# Altium integrated library Analog Devices Clock Generation and Distribution.IntLib: 120 symbols (part 13 of 18)
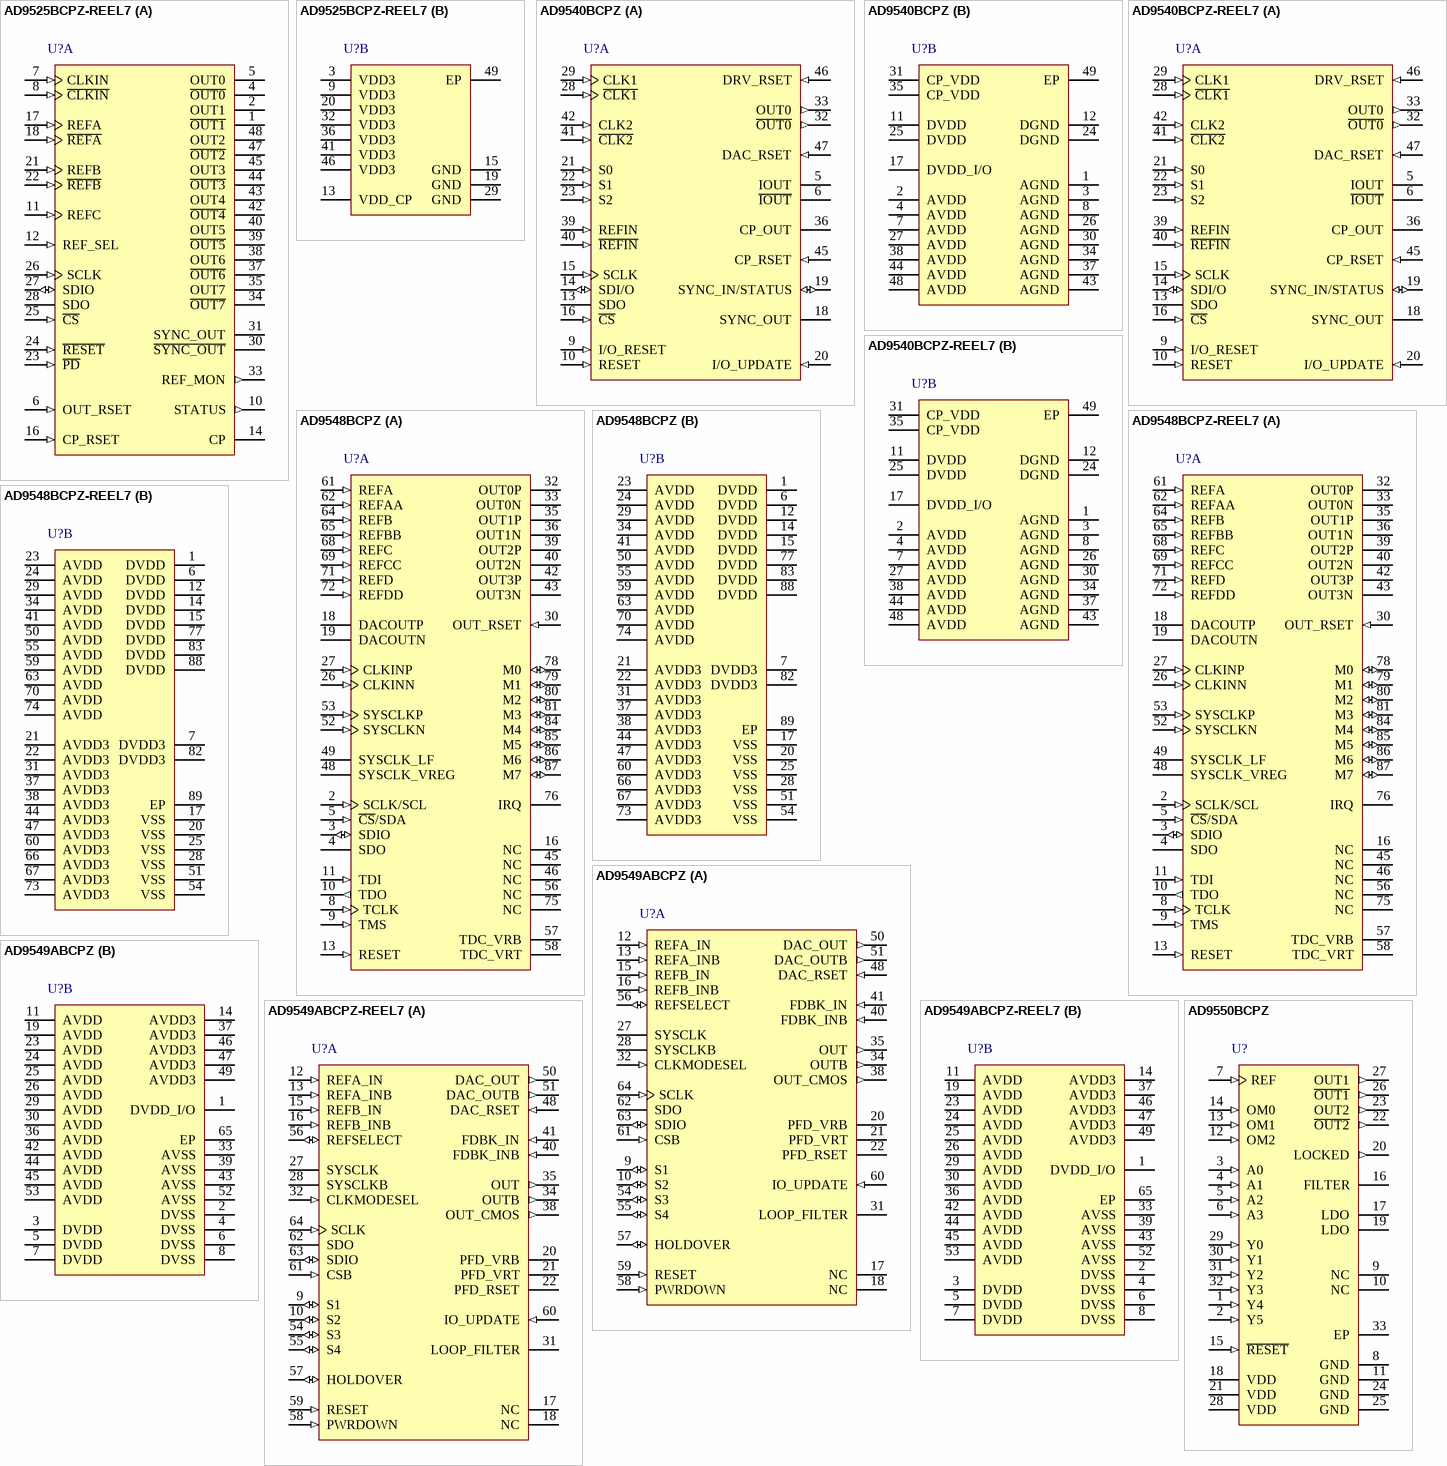
[diagram p24: symbols AD9525BCPZ-REEL7 to AD9550BCPZ]

## AD9548BCPZ-REEL7
designator U?
Quad / Octal Inputs Network Clock Generator / Synchronizer, 3.3 V Supply, Commercial, 88-pin QFN (CP-88-2), Reel; Manufacturer: Analog Devices; PartNumber: AD9548BCPZ-REEL7; # of Inputs: 8; # of Outputs: 4; Supply Voltage (V): 3.3; I/O Interface: Serial; Max f-out: 450 MHz; On-Chip VCO or DCO: Yes; Output Logic: LVDS, LVPECL, CMOS; DatasheetVersion: Rev. B; PackageVersion: 092707-A, 09/2007; PackageReference: CP-88-2; PackageDescription: 88-Pin Lead Frame Chip Scale Package, Body 12 x 12 mm, Pitch 0.5 mm; Supplier 1: Digi-Key; Supplier Part Number 1: AD9548BCPZ-REEL7-ND; Supplier 2: Newark; Supplier Part Number 2: 05R6605; Supplier 3: Mouser; Supplier Part Number 3: 584-AD9548BCPZ-R7; Packing: Reel; Mounting Technology: Surface Mount; Code_JEDEC: MO-220-VRRD; ComponentLink1Description: Manufacturer URL; ComponentLink1URL: http://www.analog.com/en/index.html; ComponentLink2Description: Datasheet; ComponentLink2URL: http://www.analog.com/static/imported-files/data_sheets/AD9548.pdf; ComponentLink3Description: Package Specification; ComponentLink3URL: http:/www.analog.com/static/imported-files/packages/PKG_PDF/LFCSP(CP)/CP_88_2.pdf; ComponentLink4Description: Product URL; ComponentLink4URL: http://www.analog.com/en/clock-and-timing/clock-generation-and-distribution/ad9548/products/product.html
footprint ADI-CP-88-2_N (QFN, 88-Leads, Body 12x12mm, Pitch 0.5mm, Thermal Pad 6x6mm, IPC Medium Density)
footprint ADI-CP-88-2_L (QFN, 88-Leads, Body 12x12mm, Pitch 0.5mm, Thermal Pad 6x6mm, IPC High Density)
footprint ADI-CP-88-2_M (QFN, 88-Leads, Body 12x12mm, Pitch 0.5mm, Thermal Pad 6x6mm, IPC Low Density)
part A pins: 2 SCLK/SCL (in) "Serial Programming Clock. Data clock for serial programming.", 3 SDIO (io) "Serial Data Input/Output. When the device is in 4-wire mode, data is written via this pin. In 3-wire mode, both data reads and writes occur on this pin. There is no internal pull-up/pull-down resistor on this pin.", 4 SDO (hiz) "Serial Data Output. Use this pin to read data in 4-wire mode (high impedance in 3-wire mode). There is no internal pull-up/pull-down resistor on this pin.", 5 ~{CS}/SDA (in) "Chip Select (SPI). Active low. When programming a device, this pin must be held low. In systems where more than one AD9548 is present, this pin enables individual programming of each AD9548 (in I2C(R) mode, this is a serial (See Datasheet)", 8 TCLK (in) "JTAG Clock. Internal pull-down resistor; no connection if JTAG is not used.", 9 TMS (in) "JTAG Mode. Internal pull-up resistor; no connection if JTAG is not used.", 10 TDO (out) "JTAG Output. No connection if JTAG is not used", 11 TDI (in) "JTAG Input. Internal pull-up resistor; no connection if JTAG is not used.", 13 RESET (in) "Chip Reset. When this active high pin is asserted, the chip goes into reset. This pin has an internal 50 k ohm pull-down resistor.", 16 NC "No Connect.", 18 DACOUTP (hiz) "DAC Output. DACOUTP contains an internal 50 ohm pull-down resistor.", 19 DACOUTN (hiz) "Complementary DAC Output. DACOUTN contains an internal 50 ohm pull-down resistor.", 26 CLKINN (in) "Clock Distribution Input. In standard operating mode, this pin is connected to the filtered DACOUTN output. This internally biased input is typically ac-coupled and, when configured as such, can accept any differential (See Datasheet)", 27 CLKINP (in) "Clock Distribution Input. In standard operating mode, this pin is connected to the filtered DACOUTP output", 30 OUT_RSET (in) "Connect an optional 3.12 k ohm resistor from this pin to ground (see the Output Current Control with an External Resistor section).", 32 OUT0P (hiz) "Output 0. This output can be configured as LVPECL, LVDS, or single-ended CMOS. LVPECL and LVDS operation require a 3.3 V output driver power supply. CMOS operation can be either 1.8 V or 3.3 V, depending on the output driver (See Datasheet)", 33 OUT0N (hiz) "Complementary Output 0. This output can be configured as LVPECL, LVDS, or single-ended CMOS.", 35 OUT1P (hiz) "Output 1. This output can be configured as LVPECL, LVDS, or single-ended CMOS. LVPECL and LVDS operation require a 3.3 V output driver power supply. CMOS operation can be either 1.8 V or 3.3 V, depending on the output driver (See Datasheet)", 36 OUT1N (hiz) "Complementary Output 1. This output can be configured as LVPECL, LVDS, or single-ended CMOS.", 39 OUT2P (hiz) "Output 2. This output can be configured as LVPECL, LVDS, or single-ended CMOS. LVPECL and LVDS operation require a 3.3 V output driver power supply. CMOS operation can be either 1.8 V or 3.3 V, depending on the output driver (See Datasheet)", 40 OUT2N (hiz) "Complementary Output 2. This output can be configured as LVPECL, LVDS, or single-ended CMOS.", 42 OUT3P (hiz) "Output 3. This output can be configured as LVPECL, LVDS, or single-ended CMOS. LVPECL and LVDS operation require a 3.3 V output driver power supply. CMOS operation can be either 1.8 V or 3.3 V, depending on the output driver (See Datasheet)", 43 OUT3N (hiz) "Complementary Output 3. This output can be configured as LVPECL, LVDS, or single-ended CMOS.", 45 NC "No Connect.", 46 NC "No Connect.", 48 SYSCLK_VREG "System Clock Loop Filter Voltage Regulator. Connect a 0.1 uF capacitor from this pin to ground. This pin is also the ac ground reference for the integrated SYSCLK PLL multiplier’s external loop filter (see the SYSCLK PLL (See Datasheet)", 49 SYSCLK_LF "System Clock Multiplier Loop Filter. When using the frequency multiplier to drive the system clock, an external loop filter can be attached to this pin.", 52 SYSCLKN (in) "Complementary System Clock Input. Complementary signal to SYSCLKP. SYSCLKN contains internal dc biasing and should be ac-coupled with a 0.01 uF capacitor, except when using a crystal, in which case connect the crystal across (See Datasheet)", 53 SYSCLKP (in) "System Clock Input. SYSCLKP contains internal dc biasing and should be ac-coupled with a 0.01 uF capacitor, except when using a crystal, in which case connect the crystal across SYSCLKP and SYSCLKN. Single-ended 1.8 V CMOS (See Datasheet)", 56 NC "No Connection. These pins should be left floating.", 57 TDC_VRB "Use capacitive decoupling on these pins.", 58 TDC_VRT "Use capacitive decoupling on these pins.", 61 REFA (in) "Reference A Input. This internally biased input is typically ac-coupled and, when configured as such, can accept any differential signal with single-ended swing up to 3.3 V. If dc-coupled, input can be LVPECL, CMOS, or LVDS.", 62 REFAA (in) "Complementary Reference A Input. Complementary signal to the input provided on Pin 61. The user can configure this pin as a separate single-ended input.", 64 REFB (in) "Reference B Input. This internally biased input is typically ac-coupled and, when configured as such, can accept any differential signal with single-ended swing up to 3.3 V. If dc-coupled, input can be LVPECL, CMOS, or LVDS.", 65 REFBB (in) "Complementary Reference B Input. Complementary signal to the input provided on Pin 64. The user can configure this pin as a separate single-ended input.", 68 REFC (in) "Reference C Input. This internally biased input is typically ac-coupled and, when configured as such, can accept any differential signal with single-ended swing up to 3.3 V. If dc-coupled, input can be LVPECL, CMOS, or LVDS.", 69 REFCC (in) "Complementary Reference C Input. Complementary signal to the input provided on Pin 68. The user can configure this pin as a separate single-ended input.", 71 REFD (in) "Reference D Input. This internally biased input is typically ac-coupled and, when configured as such, can accept any differential signal with single-ended swing up to 3.3 V. If dc-coupled, input can be LVPECL, CMOS, or LVDS.", 72 REFDD (in) "Complementary Reference D Input. Complementary signal to the input provided on Pin 71. The user can configure this pin as a separate single-ended input.", 75 NC "No Connection. These pins should be left floating.", 76 IRQ (hiz) "Interrupt Request Line.", 78 M0 (io) "Configurable I/O Pins. These pins are configured under program control.", 79 M1 (io) "Configurable I/O Pins. These pins are configured under program control.", 80 M2 (io) "Configurable I/O Pins. These pins are configured under program control.", 81 M3 (io) "Configurable I/O Pins. These pins are configured under program control.", 84 M4 (io) "Configurable I/O Pins. These pins are configured under program control.", 85 M5 (io) "Configurable I/O Pins. These pins are configured under program control.", 86 M6 (io) "Configurable I/O Pins. These pins are configured under program control.", 87 M7 (io) "Configurable I/O Pins. These pins are configured under program control."
part B pins: 1 DVDD (power) "1.8 V Digital Supply.", 6 DVDD (power) "1.8 V Digital Supply.", 7 DVDD3 (power) "3.3 V I/O Digital Supply.", 12 DVDD (power) "1.8 V Digital Supply.", 14 DVDD (power) "1.8 V DAC Decode Digital Supply. Keep isolated from the 1.8 V core digital supply.", 15 DVDD (power) "1.8 V DAC Decode Digital Supply. Keep isolated from the 1.8 V core digital supply.", 17 VSS (power) "Analog Ground. Connect to ground.", 20 VSS (power) "Analog Ground. Connect to ground.", 21 AVDD3 (power) "3.3 V Analog (DAC) Power Supply.", 22 AVDD3 (power) "3.3 V Analog (DAC) Power Supply.", 23 AVDD (power) "1.8 V Analog (DAC) Power Supply.", 24 AVDD (power) "1.8 V Analog (DAC) Power Supply.", 25 VSS (power) "Analog Ground. Connect to ground.", 28 VSS (power) "Analog Ground. Connect to ground.", 29 AVDD (power) "1.8 V Analog (Input Receiver) Power Supply.", 31 AVDD3 (power) "Analog Supply for Output Driver. These pins are normally 3.3 V but can be 1.8 V. Pin 31 powers Out0x. Pin 37 powers OUT1x. Pin 38 powers OUT2x. Pin 44 powers OUT3x. Apply power to these pins even if the corresponding outputs (See Datasheet)", 34 AVDD (power) "1.8 V Analog (Output Divider) Power Supply.", 37 AVDD3 (power) "Analog Supply for Output Driver. These pins are normally 3.3 V but can be 1.8 V. Pin 31 powers Out0x. Pin 37 powers OUT1x. Pin 38 powers OUT2x. Pin 44 powers OUT3x. Apply power to these pins even if the corresponding outputs (See Datasheet)", 38 AVDD3 (power) "Analog Supply for Output Driver. These pins are normally 3.3 V but can be 1.8 V. Pin 31 powers Out0x. Pin 37 powers OUT1x. Pin 38 powers OUT2x. Pin 44 powers OUT3x. Apply power to these pins even if the corresponding outputs (See Datasheet)", 41 AVDD (power) "1.8 V Analog (Output Divider) Power Supply.", 44 AVDD3 (power) "Analog Supply for Output Driver. These pins are normally 3.3 V but can be 1.8 V. Pin 31 powers Out0x. Pin 37 powers OUT1x. Pin 38 powers OUT2x. Pin 44 powers OUT3x. Apply power to these pins even if the corresponding outputs (See Datasheet)", 47 AVDD3 (power) "3.3 V Analog (System Clock) Power Supply.", 50 AVDD (power) "1.8 V Analog (System Clock) Power Supply.", 51 VSS (power) "Analog Ground. Connect to ground.", 54 VSS (power) "Analog Ground. Connect to ground.", 55 AVDD (power) "1.8 V Analog (System Clock) Power Supply.", 59 AVDD (power) "1.8 V Analog Power Supply.", 60 AVDD3 (power) "3.3 V Analog (Reference Input) Power Supply.", 63 AVDD (power) "1.8 V Analog (Reference Input) Power Supply.", 66 AVDD3 (power) "3.3 V Analog (Reference Input) Power Supply.", 67 AVDD3 (power) "3.3 V Analog (Reference Input) Power Supply.", 70 AVDD (power) "1.8 V Analog (Reference Input) Power Supply.", 73 AVDD3 (power) "3.3 V Analog (Reference Input) Power Supply.", 74 AVDD (power) "1.8 V Analog (Reference Input) Power Supply.", 77 DVDD (power) "1.8 V Digital Supply.", 82 DVDD3 (power) "3.3 V I/O Digital Supply.", 83 DVDD (power) "1.8 V Digital Supply.", 88 DVDD (power) "1.8 V Digital Supply.", 89 EP (power) "The exposed pad must be connected to ground (VSS)."

## AD9549ABCPZ
designator U?
Dual Input Network Clock Generator / Synchronizer, Commercial, 64-pin QFN (CP-64-7), Tray; Manufacturer: Analog Devices; PartNumber: AD9549ABCPZ; # of Inputs: 2; Supply Voltage (V): 3.3; I/O Interface: Serial; Max f-out: 750 MHz; On-Chip VCO or DCO: Yes; Output Logic: CMOS; DatasheetVersion: Rev. D; PackageVersion: 062209-A, 06/2009; PackageReference: CP-64-7; PackageDescription: 64-Pin Lead Frame Chip Scale Package, Body 9 x 9 mm, Pitch 0.5 mm; Supplier 1: Digi-Key; Supplier Part Number 1: AD9549ABCPZ-ND; Supplier 2: Mouser; Supplier Part Number 2: 584-AD9549ABCPZ; # of Outputs: 2; Packing: Tray; Mounting Technology: Surface Mount; Code_JEDEC: MO-220-VMMD-4; ComponentLink1Description: Manufacturer URL; ComponentLink1URL: http://www.analog.com/en/index.html; ComponentLink2Description: Datasheet; ComponentLink2URL: http://www.analog.com/static/imported-files/data_sheets/AD9549.pdf; ComponentLink3Description: Package Specification; ComponentLink3URL: http:/www.analog.com/static/imported-files/packages/PKG_PDF/LFCSP(CP)/CP_64_7.pdf; ComponentLink4Description: Product URL; ComponentLink4URL: http://www.analog.com/en/clock-and-timing/clock-generation-and-distribution/ad9549/products/product.html
footprint ADI-CP-64-7_N (QFN, 64-Leads, Body 9x9mm, Pitch 0.5mm, Thermal Pad 5.21x5.21mm, IPC Medium Density)
footprint ADI-CP-64-7_L (QFN, 64-Leads, Body 9x9mm, Pitch 0.5mm, Thermal Pad 5.21x5.21mm, IPC High Density)
footprint ADI-CP-64-7_M (QFN, 64-Leads, Body 9x9mm, Pitch 0.5mm, Thermal Pad 5.21x5.21mm, IPC Low Density)
part A pins: 9 S1 (io) "Configurable I/O Pins. [see datasheet]", 10 S2 (io) "Configurable I/O Pins. [see datasheet]", 12 REFA_IN (in) "Frequency/Phase Reference A Input. [see datasheet]", 13 REFA_INB (in) "Complementary Frequency/Phase Reference A Input. Complementary signal to the input provided on Pin 12. If using a single-ended, dc-coupled CMOS signal into REFA_IN, bypass this pin to ground with a 0.01 uF capacitor", 15 REFB_IN (in) "Frequency/Phase Reference B Input. This internally biased input is typically ac-coupled and, when configured as such, can accept any differential signal with single-ended swing between 0.4 V and 3.3 V. If dc-coupled, LVPECL or CMOS input is preferred.", 16 REFB_INB (in) "Complementary Frequency/Phase Reference B Input. Complementary signal to the input provided on Pin 15. If using a single-ended, dc-coupled CMOS signal into REFB_IN, bypass this pin to ground with a 0.01 uF capacitor.", 17 NC "No Connect. These are excess, unused pins that can be left floating", 18 NC "No Connect. These are excess, unused pins that can be left floating", 20 PFD_VRB "These pins must be capacitively decoupled. See the Phase Detector Pin Connections section for details.", 21 PFD_VRT "These pins must be capacitively decoupled. See the Phase Detector Pin Connections section for details.", 22 PFD_RSET "Connect a 5 K ohm resistor from this pin to ground (see the Phase Detector Pin Connections section).", 27 SYSCLK "System Clock Input. The system clock input has internal dc biasing and should always be ac-coupled, except when using a crystal. [see datasheet]", 28 SYSCLKB "Complementary System Clock. Complementary signal to the input provided on Pin 27. Use a 0.01 uF capacitor to ground on this pin if the signal provided on Pin 27 is single-ended.", 31 LOOP_FILTER "System Clock Multiplier Loop Filter. When using the frequency multiplier to drive the system clock, an external loop filter must be constructed and attached to this pin. [see datasheet]", 32 CLKMODESEL (in) "Clock Mode Select. Set to GND when connecting a crystal to the system clock input (Pin 27 and Pin 28). Pull up to 1.8 V when using either an oscillator or an external clock source. [see datasheet]", 34 OUTB (out) "Complementary HSTL Output. See the Specifications and Primary 1.8 V Differential HSTL Driver sections for details.", 35 OUT (out) "HSTL Output. See the Specifications and Primary 1.8 V Differential HSTL Driver sections for details.", 38 OUT_CMOS (out) "CMOS Output. See the Specifications and the Output Clock Drivers and 2× Frequency Multiplier sections. This pin is 1.8 V CMOS if Pin 37 is set to 1.8 V.", 40 FDBK_INB (in) "Complementary Feedback Input. In standard operating mode, this pin is connected to the filtered DAC_OUTB output. [see datasheet]", 41 FDBK_IN (in) "Feedback Input. In standard operating mode, this pin is connected to the filtered DAC_OUT output.", 48 DAC_RSET (in) "DAC Output Current Setting Resistor. Connect a resistor (usually 10 K ohm) from this pin to GND. See the DAC Output section.", 50 DAC_OUT (out) "DAC Output. This signal should be filtered and sent back on chip through FDBK_IN input. This pin has an internal 50  ohm pull-down resistor.", 51 DAC_OUTB (out) "Complementary DAC Output. This signal should be filtered and sent back on chip through FDBK_INB input. This pin has an internal 50  ohm pull-down resistor.", 54 S3 (io) "Configurable I/O Pins. These pins are configured under program control (see the Status and Warnings section) and do not have internal pull-up/pull-down resistors.", 55 S4 (io) "Configurable I/O Pins. These pins are configured under program control (see the Status and Warnings section) and do not have internal pull-up/pull-down resistors.", 56 REFSELECT (io) "Reference Select Input. In manual mode, the REFSELECT pin operates as a high impedance input pin; and in automatic mode, [see datasheet].", 57 HOLDOVER (io) "Holdover (Active High). In manual holdover mode, this pin is used to force the AD9549 into holdover mode. In automatic holdover mode, it indicates holdover status. There is no internal pull-up/pull-down resistor on this pin.", 58 PWRDOWN (in) "Power-Down. When this active high pin is asserted, the device becomes inactive and enters the full power-down state. This pin has an internal 50 K ohm pull-down resistor.", 59 RESET (in) "Chip Reset. When this active high pin is asserted, the chip goes into reset. Note that on power-up, it is recommended that the user assert a high to low edge after the power supplies reach a threshold and stabilize. [see datasheet].", 60 IO_UPDATE (in) "I/O Update. A logic transition from 0 to 1 on this pin transfers data from the I/O port registers to the control registers (see the Write section). This pin has an internal 50 K ohm pull-down resistor.", 61 CSB (in) "Chip Select. Active low. When programming a device, this pin must be held low. In systems where more than one AD9549 is present, this pin enables individual programming of each AD9549. This pin has an internal 100 K ohm pull-up resistor.", 62 SDO (hiz) "Serial Data Output. When the device is in 3-wire mode, data is read on this pin. There is no internal pull-up/pull-down resistor on this pin.", 63 SDIO (io) "Serial Data Input/Output. When the device is in 3-wire mode, data is written via this pin. In 2-wire mode, data reads and writes both occur on this pin. There is no internal pull-up/pull-down resistor on this pin.", 64 SCLK (in) "Serial Programming Clock. Data clock for serial programming. This pin has an internal 50 K ohm pull-down resistor."
part B pins: 1 DVDD_I/O (power) "I/O Digital Supply.", 2 DVSS (power) "Digital Ground. Connect to ground", 3 DVDD (power) "Digital Supply.", 4 DVSS (power) "Digital Ground. Connect to ground", 5 DVDD (power) "Digital Supply.", 6 DVSS (power) "Digital Ground. Connect to ground", 7 DVDD (power) "Digital Supply.", 8 DVSS (power) "Digital Ground. Connect to ground", 11 AVDD (power) "Analog Supply. Connect to a nominal 1.8 V supply", 14 AVDD3 (power) "Analog Supply. Connect to a nominal 3.3 V supply", 19 AVDD (power) "Analog Supply. Connect to a nominal 1.8 V supply", 23 AVDD (power) "Analog Supply. Connect to a nominal 1.8 V supply", 24 AVDD (power) "Analog Supply. Connect to a nominal 1.8 V supply", 25 AVDD (power) "Analog Supply. Connect to a nominal 1.8 V supply", 26 AVDD (power) "Analog Supply. Connect to a nominal 1.8 V supply", 29 AVDD (power) "Analog Supply. Connect to a nominal 1.8 V supply", 30 AVDD (power) "Analog Supply. Connect to a nominal 1.8 V supply", 33 AVSS (power) "Analog Ground. Connect to ground.", 36 AVDD (power) "Analog Supply. Connect to a nominal 1.8 V supply", 37 AVDD3 (power) "Analog Supply. Connect to a nominal 3.3 V supply", 39 AVSS (power) "Analog Ground. Connect to ground.", 42 AVDD (power) "Analog Supply. Connect to a nominal 1.8 V supply", 43 AVSS (power) "Analog Ground. Connect to ground.", 44 AVDD (power) "Analog Supply. Connect to a nominal 1.8 V supply", 45 AVDD (power) "Analog Supply. Connect to a nominal 1.8 V supply", 46 AVDD3 (power) "Analog Supply. Connect to a nominal 3.3 V supply", 47 AVDD3 (power) "Analog Supply. Connect to a nominal 3.3 V supply", 49 AVDD3 (power) "Analog Supply. Connect to a nominal 3.3 V supply", 52 AVSS (power) "Analog Ground. Connect to ground.", 53 AVDD (power) "Analog Supply. Connect to a nominal 1.8 V supply", 65 EP (power) "Analog Ground. The exposed thermal pad on the bottom of the package pro-vides the analog ground for the part. This exposed pad must be connected to ground for proper operation."

## AD9549ABCPZ-REEL7
designator U?
Dual Input Network Clock Generator / Synchronizer, Commercial, 64-pin QFN (CP-64-7), Reel; Manufacturer: Analog Devices; PartNumber: AD9549ABCPZ-REEL7; # of Inputs: 2; Supply Voltage (V): 3.3; I/O Interface: Serial; Max f-out: 750 MHz; On-Chip VCO or DCO: Yes; Output Logic: CMOS; DatasheetVersion: Rev. D; PackageVersion: 062209-A, 06/2009; PackageReference: CP-64-7; PackageDescription: 64-Pin Lead Frame Chip Scale Package, Body 9 x 9 mm, Pitch 0.5 mm; Supplier 1: Digi-Key; Supplier Part Number 1: AD9549ABCPZ-REEL7-ND; Supplier 2: Mouser; Supplier Part Number 2: 584-AD9549ABCPZ-R7; # of Outputs: 2; Packing: Reel; Mounting Technology: Surface Mount; Code_JEDEC: MO-220-VMMD-4; ComponentLink1Description: Manufacturer URL; ComponentLink1URL: http://www.analog.com/en/index.html; ComponentLink2Description: Datasheet; ComponentLink2URL: http://www.analog.com/static/imported-files/data_sheets/AD9549.pdf; ComponentLink3Description: Package Specification; ComponentLink3URL: http:/www.analog.com/static/imported-files/packages/PKG_PDF/LFCSP(CP)/CP_64_7.pdf; ComponentLink4Description: Product URL; ComponentLink4URL: http://www.analog.com/en/clock-and-timing/clock-generation-and-distribution/ad9549/products/product.html
footprint ADI-CP-64-7_N (QFN, 64-Leads, Body 9x9mm, Pitch 0.5mm, Thermal Pad 5.21x5.21mm, IPC Medium Density)
footprint ADI-CP-64-7_L (QFN, 64-Leads, Body 9x9mm, Pitch 0.5mm, Thermal Pad 5.21x5.21mm, IPC High Density)
footprint ADI-CP-64-7_M (QFN, 64-Leads, Body 9x9mm, Pitch 0.5mm, Thermal Pad 5.21x5.21mm, IPC Low Density)
part A pins: 9 S1 (io) "Configurable I/O Pins. [see datasheet]", 10 S2 (io) "Configurable I/O Pins. [see datasheet]", 12 REFA_IN (in) "Frequency/Phase Reference A Input. [see datasheet]", 13 REFA_INB (in) "Complementary Frequency/Phase Reference A Input. Complementary signal to the input provided on Pin 12. If using a single-ended, dc-coupled CMOS signal into REFA_IN, bypass this pin to ground with a 0.01 uF capacitor", 15 REFB_IN (in) "Frequency/Phase Reference B Input. This internally biased input is typically ac-coupled and, when configured as such, can accept any differential signal with single-ended swing between 0.4 V and 3.3 V. If dc-coupled, LVPECL or CMOS input is preferred.", 16 REFB_INB (in) "Complementary Frequency/Phase Reference B Input. Complementary signal to the input provided on Pin 15. If using a single-ended, dc-coupled CMOS signal into REFB_IN, bypass this pin to ground with a 0.01 uF capacitor.", 17 NC "No Connect. These are excess, unused pins that can be left floating", 18 NC "No Connect. These are excess, unused pins that can be left floating", 20 PFD_VRB "These pins must be capacitively decoupled. See the Phase Detector Pin Connections section for details.", 21 PFD_VRT "These pins must be capacitively decoupled. See the Phase Detector Pin Connections section for details.", 22 PFD_RSET "Connect a 5 K ohm resistor from this pin to ground (see the Phase Detector Pin Connections section).", 27 SYSCLK "System Clock Input. The system clock input has internal dc biasing and should always be ac-coupled, except when using a crystal. [see datasheet]", 28 SYSCLKB "Complementary System Clock. Complementary signal to the input provided on Pin 27. Use a 0.01 uF capacitor to ground on this pin if the signal provided on Pin 27 is single-ended.", 31 LOOP_FILTER "System Clock Multiplier Loop Filter. When using the frequency multiplier to drive the system clock, an external loop filter must be constructed and attached to this pin. [see datasheet]", 32 CLKMODESEL (in) "Clock Mode Select. Set to GND when connecting a crystal to the system clock input (Pin 27 and Pin 28). Pull up to 1.8 V when using either an oscillator or an external clock source. [see datasheet]", 34 OUTB (out) "Complementary HSTL Output. See the Specifications and Primary 1.8 V Differential HSTL Driver sections for details.", 35 OUT (out) "HSTL Output. See the Specifications and Primary 1.8 V Differential HSTL Driver sections for details.", 38 OUT_CMOS (out) "CMOS Output. See the Specifications and the Output Clock Drivers and 2× Frequency Multiplier sections. This pin is 1.8 V CMOS if Pin 37 is set to 1.8 V.", 40 FDBK_INB (in) "Complementary Feedback Input. In standard operating mode, this pin is connected to the filtered DAC_OUTB output. [see datasheet]", 41 FDBK_IN (in) "Feedback Input. In standard operating mode, this pin is connected to the filtered DAC_OUT output.", 48 DAC_RSET (in) "DAC Output Current Setting Resistor. Connect a resistor (usually 10 K ohm) from this pin to GND. See the DAC Output section.", 50 DAC_OUT (out) "DAC Output. This signal should be filtered and sent back on chip through FDBK_IN input. This pin has an internal 50  ohm pull-down resistor.", 51 DAC_OUTB (out) "Complementary DAC Output. This signal should be filtered and sent back on chip through FDBK_INB input. This pin has an internal 50  ohm pull-down resistor.", 54 S3 (io) "Configurable I/O Pins. These pins are configured under program control (see the Status and Warnings section) and do not have internal pull-up/pull-down resistors.", 55 S4 (io) "Configurable I/O Pins. These pins are configured under program control (see the Status and Warnings section) and do not have internal pull-up/pull-down resistors.", 56 REFSELECT (io) "Reference Select Input. In manual mode, the REFSELECT pin operates as a high impedance input pin; and in automatic mode, [see datasheet].", 57 HOLDOVER (io) "Holdover (Active High). In manual holdover mode, this pin is used to force the AD9549 into holdover mode. In automatic holdover mode, it indicates holdover status. There is no internal pull-up/pull-down resistor on this pin.", 58 PWRDOWN (in) "Power-Down. When this active high pin is asserted, the device becomes inactive and enters the full power-down state. This pin has an internal 50 K ohm pull-down resistor.", 59 RESET (in) "Chip Reset. When this active high pin is asserted, the chip goes into reset. Note that on power-up, it is recommended that the user assert a high to low edge after the power supplies reach a threshold and stabilize. [see datasheet].", 60 IO_UPDATE (in) "I/O Update. A logic transition from 0 to 1 on this pin transfers data from the I/O port registers to the control registers (see the Write section). This pin has an internal 50 K ohm pull-down resistor.", 61 CSB (in) "Chip Select. Active low. When programming a device, this pin must be held low. In systems where more than one AD9549 is present, this pin enables individual programming of each AD9549. This pin has an internal 100 K ohm pull-up resistor.", 62 SDO (hiz) "Serial Data Output. When the device is in 3-wire mode, data is read on this pin. There is no internal pull-up/pull-down resistor on this pin.", 63 SDIO (io) "Serial Data Input/Output. When the device is in 3-wire mode, data is written via this pin. In 2-wire mode, data reads and writes both occur on this pin. There is no internal pull-up/pull-down resistor on this pin.", 64 SCLK (in) "Serial Programming Clock. Data clock for serial programming. This pin has an internal 50 K ohm pull-down resistor."
part B pins: 1 DVDD_I/O (power) "I/O Digital Supply.", 2 DVSS (power) "Digital Ground. Connect to ground", 3 DVDD (power) "Digital Supply.", 4 DVSS (power) "Digital Ground. Connect to ground", 5 DVDD (power) "Digital Supply.", 6 DVSS (power) "Digital Ground. Connect to ground", 7 DVDD (power) "Digital Supply.", 8 DVSS (power) "Digital Ground. Connect to ground", 11 AVDD (power) "Analog Supply. Connect to a nominal 1.8 V supply", 14 AVDD3 (power) "Analog Supply. Connect to a nominal 3.3 V supply", 19 AVDD (power) "Analog Supply. Connect to a nominal 1.8 V supply", 23 AVDD (power) "Analog Supply. Connect to a nominal 1.8 V supply", 24 AVDD (power) "Analog Supply. Connect to a nominal 1.8 V supply", 25 AVDD (power) "Analog Supply. Connect to a nominal 1.8 V supply", 26 AVDD (power) "Analog Supply. Connect to a nominal 1.8 V supply", 29 AVDD (power) "Analog Supply. Connect to a nominal 1.8 V supply", 30 AVDD (power) "Analog Supply. Connect to a nominal 1.8 V supply", 33 AVSS (power) "Analog Ground. Connect to ground.", 36 AVDD (power) "Analog Supply. Connect to a nominal 1.8 V supply", 37 AVDD3 (power) "Analog Supply. Connect to a nominal 3.3 V supply", 39 AVSS (power) "Analog Ground. Connect to ground.", 42 AVDD (power) "Analog Supply. Connect to a nominal 1.8 V supply", 43 AVSS (power) "Analog Ground. Connect to ground.", 44 AVDD (power) "Analog Supply. Connect to a nominal 1.8 V supply", 45 AVDD (power) "Analog Supply. Connect to a nominal 1.8 V supply", 46 AVDD3 (power) "Analog Supply. Connect to a nominal 3.3 V supply", 47 AVDD3 (power) "Analog Supply. Connect to a nominal 3.3 V supply", 49 AVDD3 (power) "Analog Supply. Connect to a nominal 3.3 V supply", 52 AVSS (power) "Analog Ground. Connect to ground.", 53 AVDD (power) "Analog Supply. Connect to a nominal 1.8 V supply", 65 EP (power) "Analog Ground. The exposed thermal pad on the bottom of the package pro-vides the analog ground for the part. This exposed pad must be connected to ground for proper operation."

## AD9550BCPZ
designator U?
Integer-N Clock Translator for Wireline Communications, 3.3 V Supply, Industrial, 32-pin QFN (CP-32-7), Tray; Manufacturer: Analog Devices; PartNumber: AD9550BCPZ; # of Inputs: 1; # of Outputs: 2; Supply Voltage (V): 3.3; I/O Interface: Pin Select; Max f-out: 810 MHz; On-Chip VCO or DCO: Yes; Output Logic: LVDS, LVPECL, CMOS; DatasheetVersion: Rev. 0; PackageVersion: 112408-A, 11/2008; PackageReference: CP-32-7; PackageDescription: 32-Pin Lead Frame Chip Scale Package, Body 5 x 5 mm, Pitch 0.5 mm; Supplier 1: Digi-Key; Supplier Part Number 1: AD9550BCPZ-ND; Supplier 2: Mouser; Supplier Part Number 2: 584-AD9550BCPZ; Packing: Tray; Mounting Technology: Surface Mount; Code_JEDEC: MO-220-WHHD; ComponentLink1Description: Manufacturer URL; ComponentLink1URL: http://www.analog.com/en/index.html; ComponentLink2Description: Datasheet; ComponentLink2URL: http://www.analog.com/static/imported-files/data_sheets/AD9550.pdf; ComponentLink3Description: Package Specification; ComponentLink3URL: http://www.analog.com/static/imported-files/packages/CP_32_7.pdf; ComponentLink4Description: Product URL; ComponentLink4URL: http://www.analog.com/en/clock-and-timing/clock-generation-and-distribution/ad9550/products/product.html
footprint ADI-CP-32-7_N (QFN, 32-Leads, Body 5x5mm, Pitch 0.5mm, Thermal Pad 3.1x3.1mm, IPC Medium Density)
footprint ADI-CP-32-7_L (QFN, 32-Leads, Body 5x5mm, Pitch 0.5mm, Thermal Pad 3.1x3.1mm, IPC High Density)
footprint ADI-CP-32-7_M (QFN, 32-Leads, Body 5x5mm, Pitch 0.5mm, Thermal Pad 3.1x3.1mm, IPC Low Density)
pins: 1 Y4 (in) "Control Pins. These pins select one of 52 preset output frequency combinations for OUT1 and OUT2. Each pin has an internal 100 k ohm pull-up resistor.", 2 Y5 (in) "Control Pins. These pins select one of 52 preset output frequency combinations for OUT1 and OUT2. Each pin has an internal 100 k ohm pull-up resistor.", 3 A0 (in) "Control Pins. These pins select one of 15 preset input reference frequencies. Each pin has an internal 100 k ohm pull-up resistor", 4 A1 (in) "Control Pins. These pins select one of 15 preset input reference frequencies. Each pin has an internal 100 k ohm pull-up resistor", 5 A2 (in) "Control Pins. These pins select one of 15 preset input reference frequencies. Each pin has an internal 100 k ohm pull-up resistor", 6 A3 (in) "Control Pins. These pins select one of 15 preset input reference frequencies. Each pin has an internal 100 k ohm pull-up resistor", 7 REF (in) "Reference Clock Input. Connect this pin to a single-ended active clock input signal.", 8 GND (power) "Ground.", 9 NC "No Connection. Make no external connection to these pins. Do not connect to GND or VDD.", 10 NC "No Connection. Make no external connection to these pins. Do not connect to GND or VDD.", 11 GND (power) "Ground.", 12 OM2 (in) "Control Pins. These pins select one of eight preset output configurations (see Table 10). Each pin has an internal 40 k ohm pull-up resistor.", 13 OM1 (in) "Control Pins. These pins select one of eight preset output configurations (see Table 10). Each pin has an internal 40 k ohm pull-up resistor.", 14 OM0 (in) "Control Pins. These pins select one of eight preset output configurations (see Table 10). Each pin has an internal 40 k ohm pull-up resistor.", 15 ~{RESET} (in) "Reset Internal Logic. This is a digital input pin. This pin is active low with a 100 k ohm internal pull-up resistor and resets the internal logic to default states (see the Automatic Power-On Reset section).", 16 FILTER "Loop Filter Node for the PLL. Connect external loop filter components (see Figure 24) from this pin to Pin 17 (LDO)", 17 LDO "LDO Decoupling Pins. Connect a 0.47 uF decoupling capacitor from each of these pins to ground.", 18 VDD (power) "Power Supply Connection: 3.3 V Supply. Pin 21 supplies the OUT2 driver and Pin 28 supplies the OUT1 driver.", 19 LDO "LDO Decoupling Pins. Connect a 0.47 uF decoupling capacitor from each of these pins to ground.", 20 LOCKED (out) "Locked Status Indicator for the PLL. Active high.", 21 VDD (power) "Power Supply Connection: 3.3 V Supply. Pin 21 supplies the OUT2 driver and Pin 28 supplies the OUT1 driver.", 22 ~{OUT2} (out) "Complementary Square Wave Clocking Outputs.", 23 OUT2 (out) "Square Wave Clocking Outputs.", 24 GND (power) "Ground.", 25 GND (power) "Ground.", 26 ~{OUT1} (out) "Complementary Square Wave Clocking Outputs.", 27 OUT1 (out) "Square Wave Clocking Outputs.", 28 VDD (power) "Power Supply Connection: 3.3 V Supply. Pin 21 supplies the OUT2 driver and Pin 28 supplies the OUT1 driver.", 29 Y0 (in) "Control Pins. These pins select one of 52 preset output frequency combinations for OUT1 and OUT2. Each pin has an internal 100 k ohm pull-up resistor.", 30 Y1 (in) "Control Pins. These pins select one of 52 preset output frequency combinations for OUT1 and OUT2. Each pin has an internal 100 k ohm pull-up resistor.", 31 Y2 (in) "Control Pins. These pins select one of 52 preset output frequency combinations for OUT1 and OUT2. Each pin has an internal 100 k ohm pull-up resistor.", 32 Y3 (in) "Control Pins. These pins select one of 52 preset output frequency combinations for OUT1 and OUT2. Each pin has an internal 100 k ohm pull-up resistor.", 33 EP (power) "Exposed Die Pad. The exposed die pad must be connected to GND."

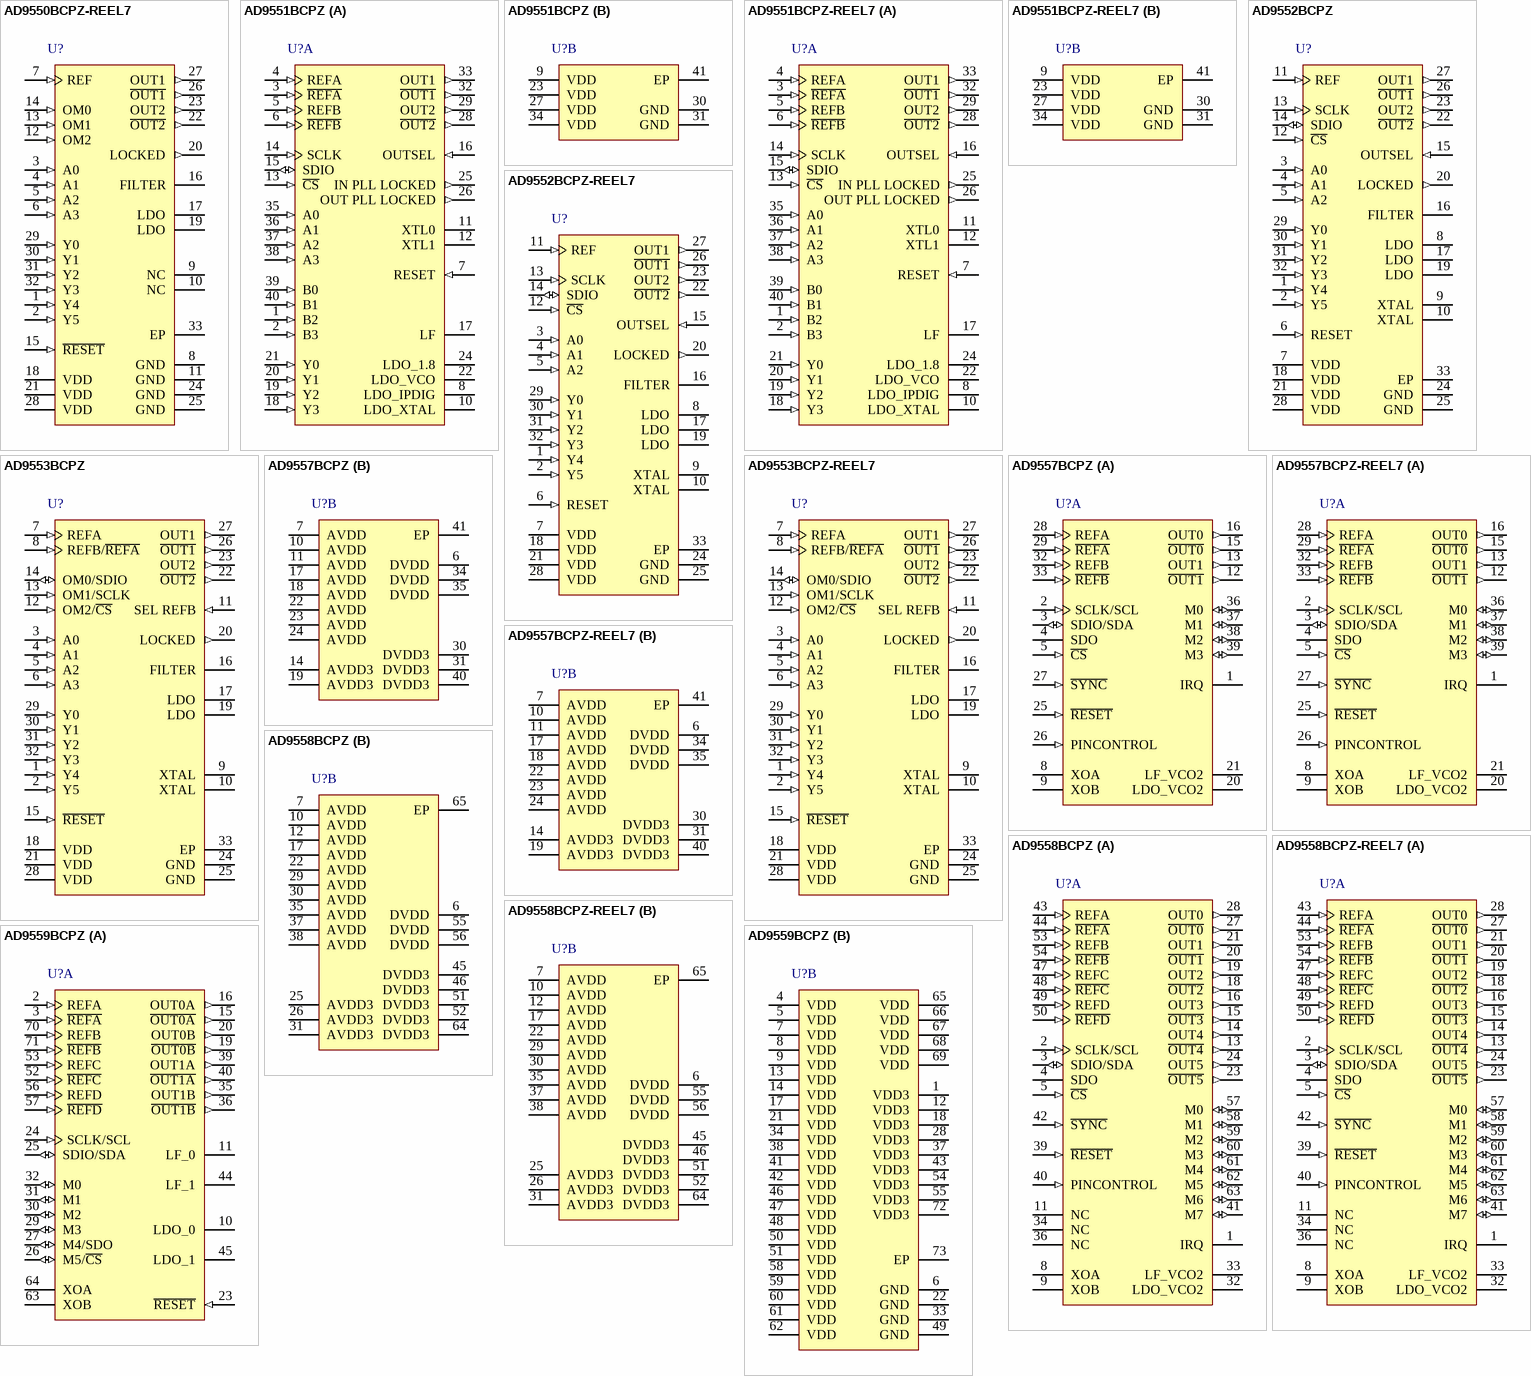
[diagram p9: symbols AD9550BCPZ-REEL7 to AD9559BCPZ]

## AD9550BCPZ-REEL7
designator U?
Integer-N Clock Translator for Wireline Communications, 3.3 V Supply, Industrial, 32-pin QFN (CP-32-7), Reel; Manufacturer: Analog Devices; PartNumber: AD9550BCPZ-REEL7; # of Inputs: 1; # of Outputs: 2; Supply Voltage (V): 3.3; I/O Interface: Pin Select; Max f-out: 810 MHz; On-Chip VCO or DCO: Yes; Output Logic: LVDS, LVPECL, CMOS; DatasheetVersion: Rev. 0; PackageVersion: 112408-A, 11/2008; PackageReference: CP-32-7; PackageDescription: 32-Pin Lead Frame Chip Scale Package, Body 5 x 5 mm, Pitch 0.5 mm; Supplier 1: Digi-Key; Supplier Part Number 1: AD9550BCPZ-REEL7-ND; Supplier 2: Newark; Supplier Part Number 2: 85R6460; Supplier 3: Mouser; Supplier Part Number 3: 584-AD9550BCPZ-R7; Packing: Reel; Mounting Technology: Surface Mount; Code_JEDEC: MO-220-WHHD; ComponentLink1Description: Manufacturer URL; ComponentLink1URL: http://www.analog.com/en/index.html; ComponentLink2Description: Datasheet; ComponentLink2URL: http://www.analog.com/static/imported-files/data_sheets/AD9550.pdf; ComponentLink3Description: Package Specification; ComponentLink3URL: http://www.analog.com/static/imported-files/packages/CP_32_7.pdf; ComponentLink4Description: Product URL; ComponentLink4URL: http://www.analog.com/en/clock-and-timing/clock-generation-and-distribution/ad9550/products/product.html
footprint ADI-CP-32-7_N (QFN, 32-Leads, Body 5x5mm, Pitch 0.5mm, Thermal Pad 3.1x3.1mm, IPC Medium Density)
footprint ADI-CP-32-7_L (QFN, 32-Leads, Body 5x5mm, Pitch 0.5mm, Thermal Pad 3.1x3.1mm, IPC High Density)
footprint ADI-CP-32-7_M (QFN, 32-Leads, Body 5x5mm, Pitch 0.5mm, Thermal Pad 3.1x3.1mm, IPC Low Density)
pins: 1 Y4 (in) "Control Pins. These pins select one of 52 preset output frequency combinations for OUT1 and OUT2. Each pin has an internal 100 k ohm pull-up resistor.", 2 Y5 (in) "Control Pins. These pins select one of 52 preset output frequency combinations for OUT1 and OUT2. Each pin has an internal 100 k ohm pull-up resistor.", 3 A0 (in) "Control Pins. These pins select one of 15 preset input reference frequencies. Each pin has an internal 100 k ohm pull-up resistor", 4 A1 (in) "Control Pins. These pins select one of 15 preset input reference frequencies. Each pin has an internal 100 k ohm pull-up resistor", 5 A2 (in) "Control Pins. These pins select one of 15 preset input reference frequencies. Each pin has an internal 100 k ohm pull-up resistor", 6 A3 (in) "Control Pins. These pins select one of 15 preset input reference frequencies. Each pin has an internal 100 k ohm pull-up resistor", 7 REF (in) "Reference Clock Input. Connect this pin to a single-ended active clock input signal.", 8 GND (power) "Ground.", 9 NC "No Connection. Make no external connection to these pins. Do not connect to GND or VDD.", 10 NC "No Connection. Make no external connection to these pins. Do not connect to GND or VDD.", 11 GND (power) "Ground.", 12 OM2 (in) "Control Pins. These pins select one of eight preset output configurations (see Table 10). Each pin has an internal 40 k ohm pull-up resistor.", 13 OM1 (in) "Control Pins. These pins select one of eight preset output configurations (see Table 10). Each pin has an internal 40 k ohm pull-up resistor.", 14 OM0 (in) "Control Pins. These pins select one of eight preset output configurations (see Table 10). Each pin has an internal 40 k ohm pull-up resistor.", 15 ~{RESET} (in) "Reset Internal Logic. This is a digital input pin. This pin is active low with a 100 k ohm internal pull-up resistor and resets the internal logic to default states (see the Automatic Power-On Reset section).", 16 FILTER "Loop Filter Node for the PLL. Connect external loop filter components (see Figure 24) from this pin to Pin 17 (LDO)", 17 LDO "LDO Decoupling Pins. Connect a 0.47 uF decoupling capacitor from each of these pins to ground.", 18 VDD (power) "Power Supply Connection: 3.3 V Supply. Pin 21 supplies the OUT2 driver and Pin 28 supplies the OUT1 driver.", 19 LDO "LDO Decoupling Pins. Connect a 0.47 uF decoupling capacitor from each of these pins to ground.", 20 LOCKED (out) "Locked Status Indicator for the PLL. Active high.", 21 VDD (power) "Power Supply Connection: 3.3 V Supply. Pin 21 supplies the OUT2 driver and Pin 28 supplies the OUT1 driver.", 22 ~{OUT2} (out) "Complementary Square Wave Clocking Outputs.", 23 OUT2 (out) "Square Wave Clocking Outputs.", 24 GND (power) "Ground.", 25 GND (power) "Ground.", 26 ~{OUT1} (out) "Complementary Square Wave Clocking Outputs.", 27 OUT1 (out) "Square Wave Clocking Outputs.", 28 VDD (power) "Power Supply Connection: 3.3 V Supply. Pin 21 supplies the OUT2 driver and Pin 28 supplies the OUT1 driver.", 29 Y0 (in) "Control Pins. These pins select one of 52 preset output frequency combinations for OUT1 and OUT2. Each pin has an internal 100 k ohm pull-up resistor.", 30 Y1 (in) "Control Pins. These pins select one of 52 preset output frequency combinations for OUT1 and OUT2. Each pin has an internal 100 k ohm pull-up resistor.", 31 Y2 (in) "Control Pins. These pins select one of 52 preset output frequency combinations for OUT1 and OUT2. Each pin has an internal 100 k ohm pull-up resistor.", 32 Y3 (in) "Control Pins. These pins select one of 52 preset output frequency combinations for OUT1 and OUT2. Each pin has an internal 100 k ohm pull-up resistor.", 33 EP (power) "Exposed Die Pad. The exposed die pad must be connected to GND."

## AD9551BCPZ
designator U?
Multiservice Clock Generator, 3.3 V Supply, Industrial, 40-pin QFN (CP-40-8), Tray; Manufacturer: Analog Devices; PartNumber: AD9551BCPZ; # of Inputs: 2; Supply Voltage (V): 3.3; I/O Interface: Serial; Max f-out: 900 MHz; On-Chip VCO or DCO: Yes; Output Logic: LVDS, LVPECL, CMOS; DatasheetVersion: Rev. B; PackageVersion: 082708-A, 08/2008; PackageReference: CP-40-8; PackageDescription: 40-Pin Lead Frame Chip Scale Package, Body 6 x 6 mm, Pitch 0.5 mm; Supplier 1: Farnell; Supplier Part Number 1: 1776627; Supplier 2: Newark; Supplier Part Number 2: 05R6606; Supplier 3: Mouser; Supplier Part Number 3: 584-AD9551BCPZ; # of Outputs: 2; Packing: Tray; Mounting Technology: Surface Mount; Code_JEDEC: MO-220-VJJD-2; ComponentLink1Description: Manufacturer URL; ComponentLink1URL: http://www.analog.com/en/index.html; ComponentLink2Description: Datasheet; ComponentLink2URL: http://www.analog.com/static/imported-files/data_sheets/AD9551.pdf; ComponentLink3Description: Package Specification; ComponentLink3URL: http:/www.analog.com/static/imported-files/packages/PKG_PDF/LFCSP(CP)/CP_40_8.pdf; ComponentLink4Description: Product URL; ComponentLink4URL: http://www.analog.com/en/clock-and-timing/clock-generation-and-distribution/ad9551/products/product.html
footprint ADI-CP-40-8_N (QFN, 40-Leads, Body 6x6mm, Pitch 0.5mm, Thermal Pad 2.9x2.9mm, IPC Medium Density)
footprint ADI-CP-40-8_L (QFN, 40-Leads, Body 6x6mm, Pitch 0.5mm, Thermal Pad 2.9x2.9mm, IPC High Density)
footprint ADI-CP-40-8_M (QFN, 40-Leads, Body 6x6mm, Pitch 0.5mm, Thermal Pad 2.9x2.9mm, IPC Low Density)
part A pins: 1 B2 (in) "Control Pin. Selects preset values for the REFB dividers.", 2 B3 (in) "Control Pin. Selects preset values for the REFB dividers.", 3 ~{REFA} (in) "Analog Input (Active High)-Complementary Reference Clock Input A.", 4 REFA (in) "Analog Input (Active High)-Reference Clock Input A.", 5 REFB (in) "Analog Input (Active High)-Reference Clock Input B.", 6 ~{REFB} (in) "Analog Input (Active High)-Complementary Reference Clock Input B.", 7 RESET (in) "Digital Input (Active High). Resets internal logic to default states. This pin has an internal 100 k ohm pull-up resistor, so the default state of the device is reset.", 8 LDO_IPDIG "LDO Decoupling Pin. Connect a 0.47 uF decoupling capacitor from this pin to ground.", 10 LDO_XTAL "LDO Decoupling Pin. Connect a 0.47 uF decoupling capacitor from this pin to ground.", 11 XTL0 "Pin for Connecting an External Crystal (20 MHz to 30 MHz).", 12 XTL1 "Pin for Connecting an External Crystal (20 MHz to 30 MHz).", 13 ~{CS} (in) "Digital Input Chip Select (Active Low).", 14 SCLK (in) "Serial Data Clock.", 15 SDIO (io) "Digital Serial Data Input/Output.", 16 OUTSEL (in) "Logic 0 selects LVDS, and Logic 1 selects LVPECL-compatible levels for both OUT1 and OUT2 when the outputs are not under SPI port control. Can be overridden via the programming registers.", 17 LF "Loop Filter Node for the Output PLL. Connect an external 12 nF capacitor (100 nF in 19.44 MHz mode) from this pin to Pin 22 ( LDO_VCO).", 18 Y3 (in) "Control Pin. Selects preset values for the output PLL feedback dividers and OUT1 dividers.", 19 Y2 (in) "Control Pin. Selects preset values for the output PLL feedback dividers and OUT1 dividers.", 20 Y1 (in) "Control Pin. Selects preset values for the output PLL feedback dividers and OUT1 dividers.", 21 Y0 (in) "Control Pin. Selects preset values for the output PLL feedback dividers and OUT1 dividers.", 22 LDO_VCO "LDO Decoupling Pin. Connect a 0.47 uF decoupling capacitor from this pin to ground.", 24 LDO_1.8 "LDO Decoupling Pin. Connect a 0.47 uF decoupling capacitor from this pin to ground.", 25 IN PLL LOCKED (out) "Active High Locked Status Indicator for the Input PLL.", 26 OUT PLL LOCKED (out) "Active High Locked Status Indicator for the Output PLL.", 28 ~{OUT2} (out) "Complementary Square Wave Clocking Output 2.", 29 OUT2 (out) "Square Wave Clocking Output 2.", 32 ~{OUT1} (out) "Complementary Square Wave Clocking Output 1.", 33 OUT1 (out) "Square Wave Clocking Output 1.", 35 A0 (in) "Control Pin. Selects preset values for the REFA dividers.", 36 A1 (in) "Control Pin. Selects preset values for the REFA dividers.", 37 A2 (in) "Control Pin. Selects preset values for the REFA dividers.", 38 A3 (in) "Control Pin. Selects preset values for the REFA dividers.", 39 B0 (in) "Control Pin. Selects preset values for the REFB dividers.", 40 B1 (in) "Control Pin. Selects preset values for the REFB dividers."
part B pins: 9 VDD (power) "Power Supply Connection (3.3 V Analog Supply).", 23 VDD (power) "Power Supply Connection (3.3 V Analog Supply).", 27 VDD (power) "Power Supply Connection (3.3 V Analog Supply).", 30 GND (power) "Analog Ground.", 31 GND (power) "Analog Ground.", 34 VDD (power) "Power Supply Connection (3.3 V Analog Supply).", 41 EP (power) "The exposed die pad must be connected to GND."